# Altium footprint library PcbLib1.PcbLib: 19 footprints (part 1 of 2)
Each footprint in its own frame and in the unit in brackets; x right, y up, seen from the top. Pads: shape width x height; smd on the part's side, far side on the other; paste and mask are expansions set on the pad; w line width, h text height; cw(c..) or ccw(c..) is an arc to the next point about the centre after c.
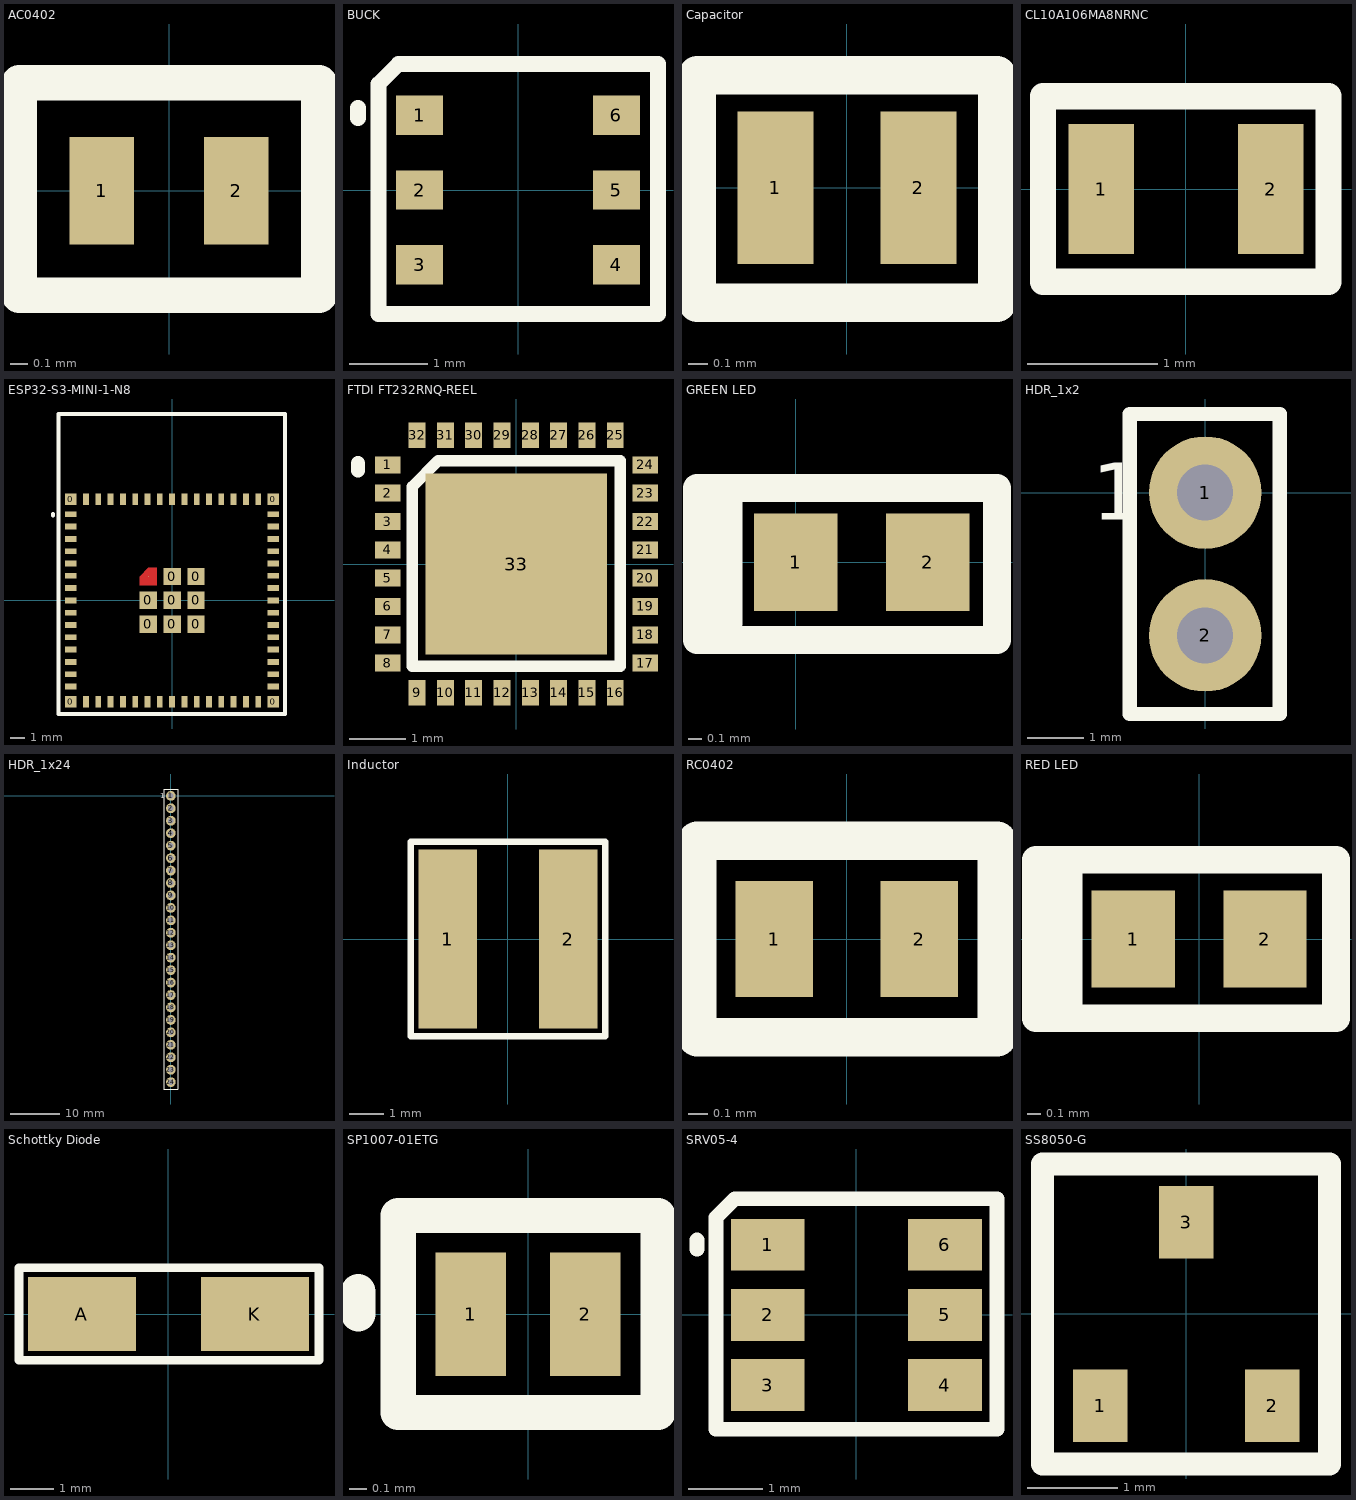
[diagram p0: the footprints below, top view; thin cyan lines are the x and y axes]

## AC0402 [mm] "Resistor"
pads (2):
  rect 0.36x0.6 smd: 1(-0.375,0) 2(0.375,0)
Top Overlay:
  lines w0.2: -0.495,0.603 0.838,0.603 0.838,-0.584 -0.838,-0.584 -0.838,0.603 0.572,0.603
3D body "AC0402FR-0710KL.STEP": height 0.37, standoff 0, extent -0.5,-0.25 0.5,0.25

## BUCK [mm]
pads (6):
  rect 0.6x0.5 smd: 1(-1.25,0.95) 2(-1.25,0) 3(-1.25,-0.95) 4(1.25,-0.95) 5(1.25,0) 6(1.25,0.95)
Top Overlay:
  lines w0.2: -2.032,0.914 -2.032,1.041 ; -1.773,-1.575 1.778,-1.575 1.778,1.6 -1.519,1.6 -1.773,1.346 -1.773,-1.575
3D body "UJ_6_ADI.step": height 0.99, standoff 0, extent -1.397,-1.448 1.397,1.448

## Capacitor [mm]
pads (2):
  rect 0.4x0.8 smd: 1(-0.375,0) 2(0.375,0)
Top Overlay:
  lines w0.2: -0.787,-0.604 -0.787,0.59 0.788,0.59 0.788,-0.604 0.394,-0.604 -0.393,-0.604 -0.787,-0.604
3D body "CL05A475MO5NUNC.STEP": height 0.55, standoff 0, extent -0.5,-0.25 0.5,0.25

## CL10A106MA8NRNC [mm]
pads (2):
  rect 0.5x1 smd: 1(-0.65,0) 2(0.65,0)
Top Overlay:
  lines w0.2: -1.097,-0.711 1.092,-0.711 1.092,0.711 -1.097,0.711 -1.097,-0.711
3D body "CL10A106MA8NRNC.STEP": height 0.9, standoff 0, extent -0.8,-0.4 0.8,0.4

## ESP32-S3-MINI-1-N8 [mm] "ESP32-S3-MINI-1-N8"
pads (73):
  rect 0.8x0.8 smd: 0(-7,-7) 0(-7,7) 0(7,-7) 0(7,7)
  rect 0.8x0.4 smd: 0(-7,5.1) 0(-7,5.95) 3(-7,4.25) 4(-7,3.4) 5(-7,2.55) 6(-7,1.7) 7(-7,0.85) 8(-7,0) 9(-7,-0.85) 10(-7,-1.7) 11(-7,-2.55) 12(-7,-3.4) 13(-7,-4.25) 14(-7,-5.1) 15(-7,-5.95) 31(7,-5.95) 32(7,-5.1) 33(7,-4.25) 34(7,-3.4) 35(7,-2.55) 36(7,-1.7) 37(7,-0.85) 38(7,0) 39(7,0.85) 40(7,1.7) 41(7,2.55) 42(7,3.4) 43(7,4.25) 44(7,5.1) 45(7,5.95)
  rect 0.4x0.8 smd: 0(-5.95,7) 0(-5.1,7) 0(-4.25,7) 0(-3.4,7) 0(-2.55,7) 0(-1.7,7) 0(-0.85,7) 0(0,7) 0(0.85,7) 0(1.7,7) 0(2.55,7) 0(3.4,7) 0(4.25,7) 0(5.1,7) 0(5.95,7) 16(-5.95,-7) 17(-5.1,-7) 18(-4.25,-7) 19(-3.4,-7) 20(-2.55,-7) 21(-1.7,-7) 22(-0.85,-7) 23(0,-7) 24(0.85,-7) 25(1.7,-7) 26(2.55,-7) 27(3.4,-7) 28(4.25,-7) 29(5.1,-7) 30(5.95,-7)
  round 0.025 smd: 0(-1.65,1.65)
  rect 1.2x1.2 smd: 0(-1.65,-1.65) 0(-1.65,0) 0(0,-1.65) 0(0,0) 0(0,1.65) 0(1.65,-1.65) 0(1.65,0) 0(1.65,1.65)
Top Layer:
  region: -2.25,1.05 -2.25,1.65 -1.65,2.25 -1.05,2.25 -1.05,1.05
Top Overlay:
  lines w0.254: -8.23,5.867 -8.23,5.969 ; -7.849,-7.849 -7.849,12.878 7.798,12.878 7.798,-7.849 -7.849,-7.849
3D body "ESP32-S3-MINI-1-N8--3DModel-STEP-1.STEP": height 2.55, standoff 0, extent -7.7,-7.725 7.7,12.775

## FTDI FT232RNQ-REEL [mm] "FTDI FT232RNQ-REEL"
pads (33):
  rect 0.45x0.3 smd: 1(-2.27,1.75) 2(-2.27,1.25) 3(-2.27,0.75) 4(-2.27,0.25) 5(-2.27,-0.25) 6(-2.27,-0.75) 7(-2.27,-1.25) 8(-2.27,-1.75) 17(2.28,-1.75) 18(2.28,-1.25) 19(2.28,-0.75) 20(2.28,-0.25) 21(2.28,0.25) 22(2.28,0.75) 23(2.28,1.25) 24(2.28,1.75)
  rect 0.3x0.45 smd: 9(-1.75,-2.27) 10(-1.25,-2.27) 11(-0.75,-2.27) 12(-0.25,-2.27) 13(0.25,-2.27) 14(0.75,-2.27) 15(1.25,-2.27) 16(1.75,-2.27) 25(1.75,2.27) 26(1.25,2.27) 27(0.75,2.27) 28(0.25,2.27) 29(-0.25,2.27) 30(-0.75,2.27) 31(-1.25,2.27) 32(-1.75,2.27)
  rect 3.2x3.2 smd: 33(0,0)
Top Overlay:
  lines w0.2: -1.834,-1.803 1.837,-1.803 1.837,1.826 -1.376,1.826 -1.834,1.368 -1.834,-1.803
  lines w0.254: -2.794,1.651 -2.794,1.778
3D body "QFN32_FT232_FTD.step": height 0.89, standoff 0, extent -2.502,-2.502 2.502,2.502

## GREEN LED [mm]
pads (2):
  rect 0.6x0.7 smd: 1(0,0) 2(0.95,0)
Top Overlay:
  lines w0.2: -0.711,-0.559 1.448,-0.559 1.448,0.533 -0.711,0.533 -0.711,-0.559
  lines w0.3: -0.533,-0.432 -0.533,0.432
3D body "User Library-LED_1006_G.STEP": height 0.2, standoff 0, extent 0.008,-0.3 1.008,0.3

## HDR_1x2 [mm]
pads (2):
  round 2 hole 1: 1(0,0) 2(0,-2.54)
Top Overlay:
  lines w0.254: -1.34,-3.937 -1.34,1.397 1.327,1.397 1.327,-3.937 -1.34,-3.937
  text "1" at -2.007,-0.483 h1.02
3D body "HTSW-102-07-TM-S.stp": height 8.38, standoff -2.54, extent -1.245,-3.81 1.245,1.27

## HDR_1x24 [mm]
pads (24):
  round 2 hole 1.06: 1(0,0) 2(0,-2.54) 3(0,-5.08) 4(0,-7.62) 5(0,-10.16) 6(0,-12.7) 7(0,-15.24) 8(0,-17.78) 9(0,-20.32) 10(0,-22.86) 11(0,-25.4) 12(0,-27.94) 13(0,-30.48) 14(0,-33.02) 15(0,-35.56) 16(0,-38.1) 17(0,-40.64) 18(0,-43.18) 19(0,-45.72) 20(0,-48.26) 21(0,-50.8) 22(0,-53.34) 23(0,-55.88) 24(0,-58.42)
Top Overlay:
  lines w0.254: -1.397,-59.817 -1.397,1.397 1.397,1.397 1.397,-59.817 -1.397,-59.817
  text "1" at -2.134,-0.483 h1.02
3D body "MTSW-104-22-L-S-435.stp": height 13.59, standoff -2.41, extent -1.27,-8.877 1.27,1.283
3D body "MTSW-104-22-L-S-435.stp": height 13.59, standoff -2.41, extent -1.27,-19.063 1.27,-8.903
3D body "MTSW-104-22-L-S-435.stp": height 13.59, standoff -2.41, extent -1.27,-29.248 1.27,-19.088
3D body "MTSW-104-22-L-S-435.stp": height 13.59, standoff -2.41, extent -1.27,-39.433 1.27,-29.273
3D body "MTSW-104-22-L-S-435.stp": height 13.59, standoff -2.41, extent -1.27,-49.555 1.27,-39.395
3D body "MTSW-104-22-L-S-435.stp": height 13.59, standoff -2.41, extent -1.27,-59.741 1.27,-49.581

## Inductor [mm] "Inductor 0402"
pads (2):
  rect 1.7x5.2 smd: 1(-1.75,0) 2(1.75,0)
Top Overlay:
  lines w0.2: -2.819,-2.819 -1.845,-2.819 1.52,-2.819 2.819,-2.819 2.819,2.819 -2.819,2.819 -2.819,-2.819
3D body "LQH5BPZ4R7NT0L.STEP": height 2.2, standoff 0, extent -2.5,-2.5 2.5,2.5

## RC0402 [mm] "Resistor"
pads (2):
  rect 0.4x0.6 smd: 1(-0.375,0) 2(0.375,0)
Top Overlay:
  lines w0.2: -0.775,-0.508 -0.775,0.27 -0.775,0.508 0.777,0.508 0.777,-0.508 -0.775,-0.508
3D body "RC0402FR072KL.STEP": height 0.4, standoff 0, extent -0.5,-0.25 0.5,0.25

## RED LED [mm]
pads (2):
  rect 0.6x0.7 smd: 1(-0.475,0) 2(0.475,0)
Top Overlay:
  lines w0.2: -1.176,-0.572 -0.572,-0.572 0.637,-0.572 0.987,-0.572 0.987,0.572 -1.176,0.572 -1.176,0.064 -1.176,-0.572
  lines w0.3: -0.989,-0.5 -0.989,0.516
3D body "User Library-LED_1006_R.STEP": height 0.2, standoff 0, extent -0.5,-0.3 0.5,0.3

## Schottky Diode [mm]
pads (2):
  rect 2.5x1.7 smd: A(-2,0) K(2,0)
Top Overlay:
  lines w0.2: -3.454,-1.067 3.48,-1.067 3.48,1.067 -3.454,1.067 -3.454,-1.067
3D body "B230A-13-F.STEP": height 2.4, standoff 0, extent -2.598,-1.302 2.598,1.302

## SP1007-01ETG [mm] "SP1007-01ETG"
pads (2):
  rect 0.4x0.7 smd: 1(-0.325,0) 2(0.325,0)
Top Overlay:
  lines w0.2: -0.965,0 -0.965,0.127 ; -0.737,-0.558 -0.737,0.559 0.737,0.559 0.737,-0.558 -0.737,-0.558
3D body "PMEG2005AEL,315.STEP": height 0.5, standoff 0, extent -0.493,-0.292 0.493,0.292

## SRV05-4 [mm]
pads (6):
  rect 1x0.7 smd: 1(-1.2,0.95) 2(-1.2,0) 3(-1.2,-0.95) 4(1.2,-0.95) 5(1.2,0) 6(1.2,0.95)
Top Overlay:
  lines w0.2: -2.159,0.889 -2.159,1.016 ; -1.9,-1.549 1.905,-1.549 1.905,1.575 -1.646,1.575 -1.9,1.321 -1.9,-1.549
3D body "SRV05-4.TCT--3DModel-STEP-510211.STEP": height 1.45, standoff 0, extent -1.4,-1.45 1.4,1.45

## SS8050-G [mm] "SS8050-G"
pads (3):
  rect 0.6x0.8 smd: 1(-0.947,-1.01) 2(0.947,-1.01) 3(-0.003,1.01)
Top Overlay:
  lines w0.254: -1.584,-1.651 1.575,-1.651 1.575,1.651 -1.584,1.651 -1.584,-1.282 -1.584,-1.651
3D body "SS8050-G--3DModel-STEP-1.STEP": height 1.14, standoff 0, extent -1.448,-1.2 1.448,1.2